# Altium footprint library spin5v1_simple.PcbLib: 34 footprints (part 2 of 4)
Each footprint in its own frame and in the unit in brackets; x right, y up, seen from the top. Pads: shape width x height; smd on the part's side, far side on the other; paste and mask are expansions set on the pad; w line width, h text height; cw(c..) or ccw(c..) is an arc to the next point about the centre after c.
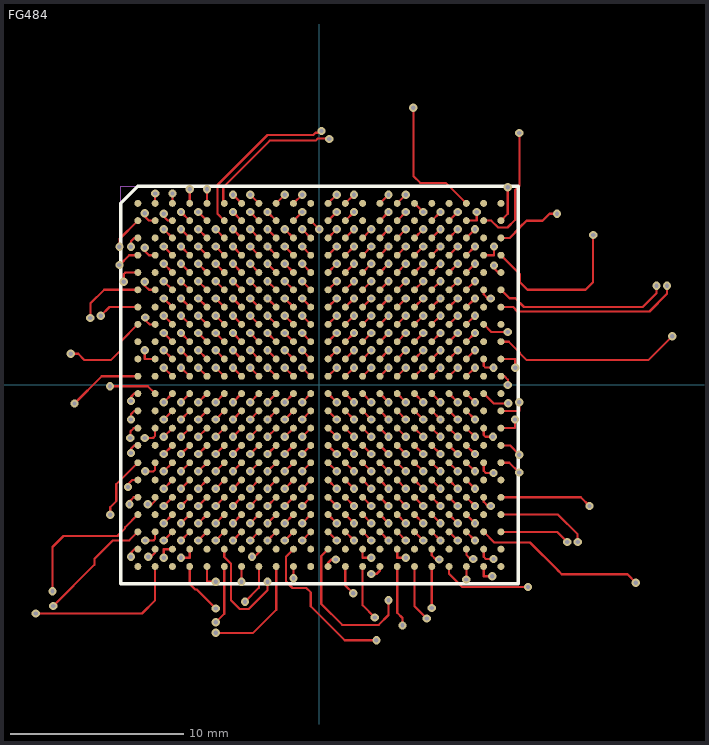
[diagram p1: the footprint, top view; thin cyan lines are the x and y axes]

## FG484 [mm] "FG484"
pads (484):
  round 0.4 smd: A1(-10.5,10.5) A2(-9.5,10.5) A3(-8.5,10.5) A4(-7.5,10.5) A5(-6.5,10.5) A6(-5.5,10.5) A7(-4.5,10.5) A8(-3.5,10.5) A9(-2.5,10.5) A10(-1.5,10.5) A11(-0.5,10.5) A12(0.5,10.5) A13(1.5,10.5) A14(2.5,10.5) A15(3.5,10.5) A16(4.5,10.5) A17(5.5,10.5) A18(6.5,10.5) A19(7.5,10.5) A20(8.5,10.5) A21(9.5,10.5) A22(10.5,10.5) AA1(-10.5,-9.5) AA2(-9.5,-9.5) AA3(-8.5,-9.5) AA4(-7.5,-9.5) AA5(-6.5,-9.5) AA6(-5.5,-9.5) AA7(-4.5,-9.5) AA8(-3.5,-9.5) AA9(-2.5,-9.5) AA10(-1.5,-9.5) AA11(-0.5,-9.5) AA12(0.5,-9.5) AA13(1.5,-9.5) AA14(2.5,-9.5) AA15(3.5,-9.5) AA16(4.5,-9.5) AA17(5.5,-9.5) AA18(6.5,-9.5) AA19(7.5,-9.5) AA20(8.5,-9.5) AA21(9.5,-9.5) AA22(10.5,-9.5) AB1(-10.5,-10.5) AB2(-9.5,-10.5) AB3(-8.5,-10.5) AB4(-7.5,-10.5) AB5(-6.5,-10.5) AB6(-5.5,-10.5) AB7(-4.5,-10.5) AB8(-3.5,-10.5) AB9(-2.5,-10.5) AB10(-1.5,-10.5) AB11(-0.5,-10.5) AB12(0.5,-10.5) AB13(1.5,-10.5) AB14(2.5,-10.5) AB15(3.5,-10.5) AB16(4.5,-10.5) AB17(5.5,-10.5) AB18(6.5,-10.5) AB19(7.5,-10.5) AB20(8.5,-10.5) AB21(9.5,-10.5) AB22(10.5,-10.5) B1(-10.5,9.5) B2(-9.5,9.5) B3(-8.5,9.5) B4(-7.5,9.5) B5(-6.5,9.5) B6(-5.5,9.5) B7(-4.5,9.5) B8(-3.5,9.5) B9(-2.5,9.5) B10(-1.5,9.5) B11(-0.5,9.5) B12(0.5,9.5) B13(1.5,9.5) B14(2.5,9.5) B15(3.5,9.5) B16(4.5,9.5) B17(5.5,9.5) B18(6.5,9.5) B19(7.5,9.5) B20(8.5,9.5) B21(9.5,9.5) B22(10.5,9.5) C1(-10.5,8.5) C2(-9.5,8.5) C3(-8.5,8.5) C4(-7.5,8.5) C5(-6.5,8.5) C6(-5.5,8.5) C7(-4.5,8.5) C8(-3.5,8.5) C9(-2.5,8.5) C10(-1.5,8.5) C11(-0.5,8.5) C12(0.5,8.5) C13(1.5,8.5) C14(2.5,8.5) C15(3.5,8.5) C16(4.5,8.5) C17(5.5,8.5) C18(6.5,8.5) C19(7.5,8.5) C20(8.5,8.5) C21(9.5,8.5) C22(10.5,8.5) D1(-10.5,7.5) D2(-9.5,7.5) D3(-8.5,7.5) D4(-7.5,7.5) D5(-6.5,7.5) D6(-5.5,7.5) D7(-4.5,7.5) D8(-3.5,7.5) D9(-2.5,7.5) D10(-1.5,7.5) D11(-0.5,7.5) D12(0.5,7.5) D13(1.5,7.5) D14(2.5,7.5) D15(3.5,7.5) D16(4.5,7.5) D17(5.5,7.5) D18(6.5,7.5) D19(7.5,7.5) D20(8.5,7.5) D21(9.5,7.5) D22(10.5,7.5) E1(-10.5,6.5) E2(-9.5,6.5) E3(-8.5,6.5) E4(-7.5,6.5) E5(-6.5,6.5) E6(-5.5,6.5) E7(-4.5,6.5) E8(-3.5,6.5) E9(-2.5,6.5) E10(-1.5,6.5) E11(-0.5,6.5) E12(0.5,6.5) E13(1.5,6.5) E14(2.5,6.5) E15(3.5,6.5) E16(4.5,6.5) E17(5.5,6.5) E18(6.5,6.5) E19(7.5,6.5) E20(8.5,6.5) E21(9.5,6.5) E22(10.5,6.5) F1(-10.5,5.5) F2(-9.5,5.5) F3(-8.5,5.5) F4(-7.5,5.5) F5(-6.5,5.5) F6(-5.5,5.5) F7(-4.5,5.5) F8(-3.5,5.5) F9(-2.5,5.5) F10(-1.5,5.5) F11(-0.5,5.5) F12(0.5,5.5) F13(1.5,5.5) F14(2.5,5.5) F15(3.5,5.5) F16(4.5,5.5) F17(5.5,5.5) F18(6.5,5.5) F19(7.5,5.5) F20(8.5,5.5) F21(9.5,5.5) F22(10.5,5.5) G1(-10.5,4.5) G2(-9.5,4.5) G3(-8.5,4.5) G4(-7.5,4.5) G5(-6.5,4.5) G6(-5.5,4.5) G7(-4.5,4.5) G8(-3.5,4.5) G9(-2.5,4.5) G10(-1.5,4.5) G11(-0.5,4.5) G12(0.5,4.5) G13(1.5,4.5) G14(2.5,4.5) G15(3.5,4.5) G16(4.5,4.5) G17(5.5,4.5) G18(6.5,4.5) G19(7.5,4.5) G20(8.5,4.5) G21(9.5,4.5) G22(10.5,4.5) H1(-10.5,3.5) H2(-9.5,3.5) H3(-8.5,3.5) H4(-7.5,3.5) H5(-6.5,3.5) H6(-5.5,3.5) H7(-4.5,3.5) H8(-3.5,3.5) H9(-2.5,3.5) H10(-1.5,3.5) H11(-0.5,3.5) H12(0.5,3.5) H13(1.5,3.5) H14(2.5,3.5) H15(3.5,3.5) H16(4.5,3.5) H17(5.5,3.5) H18(6.5,3.5) H19(7.5,3.5) H20(8.5,3.5) H21(9.5,3.5) H22(10.5,3.5) J1(-10.5,2.5) J2(-9.5,2.5) J3(-8.5,2.5) J4(-7.5,2.5) J5(-6.5,2.5) J6(-5.5,2.5) J7(-4.5,2.5) J8(-3.5,2.5) J9(-2.5,2.5) J10(-1.5,2.5) J11(-0.5,2.5) J12(0.5,2.5) J13(1.5,2.5) J14(2.5,2.5) J15(3.5,2.5) J16(4.5,2.5) J17(5.5,2.5) J18(6.5,2.5) J19(7.5,2.5) J20(8.5,2.5) J21(9.5,2.5) J22(10.5,2.5) K1(-10.5,1.5) K2(-9.5,1.5) K3(-8.5,1.5) K4(-7.5,1.5) K5(-6.5,1.5) K6(-5.5,1.5) K7(-4.5,1.5) K8(-3.5,1.5) K9(-2.5,1.5) K10(-1.5,1.5) K11(-0.5,1.5) K12(0.5,1.5) K13(1.5,1.5) K14(2.5,1.5) K15(3.5,1.5) K16(4.5,1.5) K17(5.5,1.5) K18(6.5,1.5) K19(7.5,1.5) K20(8.5,1.5) K21(9.5,1.5) K22(10.5,1.5) L1(-10.5,0.5) L2(-9.5,0.5) L3(-8.5,0.5) L4(-7.5,0.5) L5(-6.5,0.5) L6(-5.5,0.5) L7(-4.5,0.5) L8(-3.5,0.5) L9(-2.5,0.5) L10(-1.5,0.5) L11(-0.5,0.5) L12(0.5,0.5) L13(1.5,0.5) L14(2.5,0.5) L15(3.5,0.5) L16(4.5,0.5) L17(5.5,0.5) L18(6.5,0.5) L19(7.5,0.5) L20(8.5,0.5) L21(9.5,0.5) L22(10.5,0.5) M1(-10.5,-0.5) M2(-9.5,-0.5) M3(-8.5,-0.5) M4(-7.5,-0.5) M5(-6.5,-0.5) M6(-5.5,-0.5) M7(-4.5,-0.5) M8(-3.5,-0.5) M9(-2.5,-0.5) M10(-1.5,-0.5) M11(-0.5,-0.5) M12(0.5,-0.5) M13(1.5,-0.5) M14(2.5,-0.5) M15(3.5,-0.5) M16(4.5,-0.5) M17(5.5,-0.5) M18(6.5,-0.5) M19(7.5,-0.5) M20(8.5,-0.5) M21(9.5,-0.5) M22(10.5,-0.5) N1(-10.5,-1.5) N2(-9.5,-1.5) N3(-8.5,-1.5) N4(-7.5,-1.5) N5(-6.5,-1.5) N6(-5.5,-1.5) N7(-4.5,-1.5) N8(-3.5,-1.5) N9(-2.5,-1.5) N10(-1.5,-1.5) N11(-0.5,-1.5) N12(0.5,-1.5) N13(1.5,-1.5) N14(2.5,-1.5) N15(3.5,-1.5) N16(4.5,-1.5) N17(5.5,-1.5) N18(6.5,-1.5) N19(7.5,-1.5) N20(8.5,-1.5) N21(9.5,-1.5) N22(10.5,-1.5) P1(-10.5,-2.5) P2(-9.5,-2.5) P3(-8.5,-2.5) P4(-7.5,-2.5) P5(-6.5,-2.5) P6(-5.5,-2.5) P7(-4.5,-2.5) P8(-3.5,-2.5) P9(-2.5,-2.5) P10(-1.5,-2.5) P11(-0.5,-2.5) P12(0.5,-2.5) P13(1.5,-2.5) P14(2.5,-2.5) P15(3.5,-2.5) P16(4.5,-2.5) P17(5.5,-2.5) P18(6.5,-2.5) P19(7.5,-2.5) P20(8.5,-2.5) P21(9.5,-2.5) P22(10.5,-2.5) R1(-10.5,-3.5) R2(-9.5,-3.5) R3(-8.5,-3.5) R4(-7.5,-3.5) R5(-6.5,-3.5) R6(-5.5,-3.5) R7(-4.5,-3.5) R8(-3.5,-3.5) R9(-2.5,-3.5) R10(-1.5,-3.5) R11(-0.5,-3.5) R12(0.5,-3.5) R13(1.5,-3.5) R14(2.5,-3.5) R15(3.5,-3.5) R16(4.5,-3.5) R17(5.5,-3.5) R18(6.5,-3.5) R19(7.5,-3.5) R20(8.5,-3.5) R21(9.5,-3.5) R22(10.5,-3.5) T1(-10.5,-4.5) T2(-9.5,-4.5) T3(-8.5,-4.5) T4(-7.5,-4.5) T5(-6.5,-4.5) T6(-5.5,-4.5) T7(-4.5,-4.5) T8(-3.5,-4.5) T9(-2.5,-4.5) T10(-1.5,-4.5) T11(-0.5,-4.5) T12(0.5,-4.5) T13(1.5,-4.5) T14(2.5,-4.5) T15(3.5,-4.5) T16(4.5,-4.5) T17(5.5,-4.5) T18(6.5,-4.5) T19(7.5,-4.5) T20(8.5,-4.5) T21(9.5,-4.5) T22(10.5,-4.5) U1(-10.5,-5.5) U2(-9.5,-5.5) U3(-8.5,-5.5) U4(-7.5,-5.5) U5(-6.5,-5.5) U6(-5.5,-5.5) U7(-4.5,-5.5) U8(-3.5,-5.5) U9(-2.5,-5.5) U10(-1.5,-5.5) U11(-0.5,-5.5) U12(0.5,-5.5) U13(1.5,-5.5) U14(2.5,-5.5) U15(3.5,-5.5) U16(4.5,-5.5) U17(5.5,-5.5) U18(6.5,-5.5) U19(7.5,-5.5) U20(8.5,-5.5) U21(9.5,-5.5) U22(10.5,-5.5) V1(-10.5,-6.5) V2(-9.5,-6.5) V3(-8.5,-6.5) V4(-7.5,-6.5) V5(-6.5,-6.5) V6(-5.5,-6.5) V7(-4.5,-6.5) V8(-3.5,-6.5) V9(-2.5,-6.5) V10(-1.5,-6.5) V11(-0.5,-6.5) V12(0.5,-6.5) V13(1.5,-6.5) V14(2.5,-6.5) V15(3.5,-6.5) V16(4.5,-6.5) V17(5.5,-6.5) V18(6.5,-6.5) V19(7.5,-6.5) V20(8.5,-6.5) V21(9.5,-6.5) V22(10.5,-6.5) W1(-10.5,-7.5) W2(-9.5,-7.5) W3(-8.5,-7.5) W4(-7.5,-7.5) W5(-6.5,-7.5) W6(-5.5,-7.5) W7(-4.5,-7.5) W8(-3.5,-7.5) W9(-2.5,-7.5) W10(-1.5,-7.5) W11(-0.5,-7.5) W12(0.5,-7.5) W13(1.5,-7.5) W14(2.5,-7.5) W15(3.5,-7.5) W16(4.5,-7.5) W17(5.5,-7.5) W18(6.5,-7.5) W19(7.5,-7.5) W20(8.5,-7.5) W21(9.5,-7.5) W22(10.5,-7.5) Y1(-10.5,-8.5) Y2(-9.5,-8.5) Y3(-8.5,-8.5) Y4(-7.5,-8.5) Y5(-6.5,-8.5) Y6(-5.5,-8.5) Y7(-4.5,-8.5) Y8(-3.5,-8.5) Y9(-2.5,-8.5) Y10(-1.5,-8.5) Y11(-0.5,-8.5) Y12(0.5,-8.5) Y13(1.5,-8.5) Y14(2.5,-8.5) Y15(3.5,-8.5) Y16(4.5,-8.5) Y17(5.5,-8.5) Y18(6.5,-8.5) Y19(7.5,-8.5) Y20(8.5,-8.5) Y21(9.5,-8.5) Y22(10.5,-8.5)
via 2,-2 diameter 0.48 hole 0.25
via 6,-2 diameter 0.48 hole 0.25
via -3,-2 diameter 0.48 hole 0.25
via -1,-2 diameter 0.48 hole 0.25
via 0,9 diameter 0.48 hole 0.25
via 4,10 diameter 0.48 hole 0.25
via -5,10 diameter 0.48 hole 0.25
via -7,10 diameter 0.48 hole 0.25
via 2,11 diameter 0.48 hole 0.25
via -2,11 diameter 0.48 hole 0.25
via 6,10 diameter 0.48 hole 0.25
via 5,-8 diameter 0.48 hole 0.25
via 3,-7 diameter 0.48 hole 0.25
via 1,-3 diameter 0.48 hole 0.25
via -2,-7 diameter 0.48 hole 0.25
via -2,-3 diameter 0.48 hole 0.25
via -5,-8 diameter 0.48 hole 0.25
via -5,-6 diameter 0.48 hole 0.25
via -7,5 diameter 0.48 hole 0.25
via -5,4 diameter 0.48 hole 0.25
via -3,1 diameter 0.48 hole 0.25
via -7,1 diameter 0.48 hole 0.25
via -2,-1 diameter 0.48 hole 0.25
via -7,-4 diameter 0.48 hole 0.25
via -8,-7 diameter 0.48 hole 0.25
via 5,8 diameter 0.48 hole 0.25
via 5,9 diameter 0.48 hole 0.25
via 4,7 diameter 0.48 hole 0.25
via 3,7 diameter 0.48 hole 0.25
via 3,9 diameter 0.48 hole 0.25
via 2,3 diameter 0.48 hole 0.25
via 2,6 diameter 0.48 hole 0.25
via 1,2 diameter 0.48 hole 0.25
via 1,9 diameter 0.48 hole 0.25
via -1,1 diameter 0.48 hole 0.25
via -1,3 diameter 0.48 hole 0.25
via -1,7 diameter 0.48 hole 0.25
via -2,2 diameter 0.48 hole 0.25
via -2,8 diameter 0.48 hole 0.25
via -3,3 diameter 0.48 hole 0.25
via -4,9 diameter 0.48 hole 0.25
via -5,7 diameter 0.48 hole 0.25
via -6,8 diameter 0.48 hole 0.25
via -6,9 diameter 0.48 hole 0.25
via 7,5 diameter 0.48 hole 0.25
via 4,3 diameter 0.48 hole 0.25
via 3,2 diameter 0.48 hole 0.25
via 7,1 diameter 0.48 hole 0.25
via 2,1 diameter 0.48 hole 0.25
via 3,-1 diameter 0.48 hole 0.25
via 1,-1 diameter 0.48 hole 0.25
via 3,-3 diameter 0.48 hole 0.25
via 7,-4 diameter 0.48 hole 0.25
via 8,-8 diameter 0.48 hole 0.25
via 5,-1 diameter 0.48 hole 0.25
via 5,-9 diameter 0.48 hole 0.25
via 6,-9 diameter 0.48 hole 0.25
via 5,-10 diameter 0.48 hole 0.25
via 6.931,-10.099 diameter 0.48 hole 0.25
via 6.216,-13.509 diameter 0.48 hole 0.25
via 6.5,-12.902 diameter 0.48 hole 0.25
via 5,-2 diameter 0.48 hole 0.25
via 5,-3 diameter 0.48 hole 0.25
via 6,-3 diameter 0.48 hole 0.25
via 5,-4 diameter 0.48 hole 0.25
via 6,-4 diameter 0.48 hole 0.25
via 6,-5 diameter 0.48 hole 0.25
via 5,-6 diameter 0.48 hole 0.25
via 6,-7 diameter 0.48 hole 0.25
via 6,-8 diameter 0.48 hole 0.25
via 4,1 diameter 0.48 hole 0.25
via 3,-9 diameter 0.48 hole 0.25
via 4,-9 diameter 0.48 hole 0.25
via 3,-10 diameter 0.48 hole 0.25
via 3.2,-13.446 diameter 0.48 hole 0.25
via 3,-10.935 diameter 0.48 hole 0.25
via 4.801,-13.908 diameter 0.48 hole 0.25
via 4,-2 diameter 0.48 hole 0.25
via 4,-4 diameter 0.48 hole 0.25
via 3,-5 diameter 0.48 hole 0.25
via 4,-5 diameter 0.48 hole 0.25
via 3,-6 diameter 0.48 hole 0.25
via 4,-6 diameter 0.48 hole 0.25
via 4,-7 diameter 0.48 hole 0.25
via 3,-8 diameter 0.48 hole 0.25
via 4,-8 diameter 0.48 hole 0.25
via 6,-1 diameter 0.48 hole 0.25
via 11.566,-4.032 diameter 0.48 hole 0.25
via 9,-5 diameter 0.48 hole 0.25
via 10.068,-5.093 diameter 0.48 hole 0.25
via 11.555,-5.069 diameter 0.48 hole 0.25
via 9,-6 diameter 0.48 hole 0.25
via 7,-1 diameter 0.48 hole 0.25
via 8,-1 diameter 0.48 hole 0.25
via 8,-2 diameter 0.48 hole 0.25
via 9,-2 diameter 0.48 hole 0.25
via 11.566,-1.002 diameter 0.48 hole 0.25
via 9,-3 diameter 0.48 hole 0.25
via 10.034,-3 diameter 0.48 hole 0.25
via 11.312,-2 diameter 0.48 hole 0.25
via 9,-4 diameter 0.48 hole 0.25
via 7,-3 diameter 0.48 hole 0.25
via 9,-8 diameter 0.48 hole 0.25
via 14.934,-9.082 diameter 0.48 hole 0.25
via 7,-9 diameter 0.48 hole 0.25
via 18.297,-11.439 diameter 0.48 hole 0.25
via 14.327,-9.082 diameter 0.48 hole 0.25
via 12.065,-11.683 diameter 0.48 hole 0.25
via 8,-3 diameter 0.48 hole 0.25
via 8,-4 diameter 0.48 hole 0.25
via 7,-5 diameter 0.48 hole 0.25
via 8,-5 diameter 0.48 hole 0.25
via 8,-6 diameter 0.48 hole 0.25
via 8,-7 diameter 0.48 hole 0.25
via 9.901,-7 diameter 0.48 hole 0.25
via 15.619,-7 diameter 0.48 hole 0.25
via 7,-8 diameter 0.48 hole 0.25
via 7,6 diameter 0.48 hole 0.25
via 9,4 diameter 0.48 hole 0.25
via 10.901,3.065 diameter 0.48 hole 0.25
via 8,3 diameter 0.48 hole 0.25
via 9,3 diameter 0.48 hole 0.25
via 20.402,2.815 diameter 0.48 hole 0.25
via 8,6 diameter 0.48 hole 0.25
via 9,6 diameter 0.48 hole 0.25
via 8,5 diameter 0.48 hole 0.25
via 9,5 diameter 0.48 hole 0.25
via 20.103,5.729 diameter 0.48 hole 0.25
via 5,4 diameter 0.48 hole 0.25
via 6,4 diameter 0.48 hole 0.25
via 7,4 diameter 0.48 hole 0.25
via 8,4 diameter 0.48 hole 0.25
via 5,3 diameter 0.48 hole 0.25
via 8,1 diameter 0.48 hole 0.25
via 9,1 diameter 0.48 hole 0.25
via 10.901,0 diameter 0.48 hole 0.25
via 9,-1 diameter 0.48 hole 0.25
via 10.913,-1.069 diameter 0.48 hole 0.25
via 6,3 diameter 0.48 hole 0.25
via 5,2 diameter 0.48 hole 0.25
via 6,2 diameter 0.48 hole 0.25
via 7,2 diameter 0.48 hole 0.25
via 8,2 diameter 0.48 hole 0.25
via 9,2 diameter 0.48 hole 0.25
via 10.07,1 diameter 0.48 hole 0.25
via 11.332,1 diameter 0.48 hole 0.25
via 6,1 diameter 0.48 hole 0.25
via 5.434,16.032 diameter 0.48 hole 0.25
via 10.099,8 diameter 0.48 hole 0.25
via 15.829,8.673 diameter 0.48 hole 0.25
via 9,7 diameter 0.48 hole 0.25
via 10.099,6.901 diameter 0.48 hole 0.25
via 9.916,5 diameter 0.48 hole 0.25
via 19.496,5.729 diameter 0.48 hole 0.25
via 9.099,9.998 diameter 0.48 hole 0.25
via 11.566,14.567 diameter 0.48 hole 0.25
via 10.891,11.434 diameter 0.48 hole 0.25
via 7,9 diameter 0.48 hole 0.25
via 8,9 diameter 0.48 hole 0.25
via 9,9 diameter 0.48 hole 0.25
via 13.737,9.901 diameter 0.48 hole 0.25
via 7,8 diameter 0.48 hole 0.25
via 8,8 diameter 0.48 hole 0.25
via -10.099,5.966 diameter 0.48 hole 0.25
via -9,4 diameter 0.48 hole 0.25
via -8,4 diameter 0.48 hole 0.25
via -7,4 diameter 0.48 hole 0.25
via -6,4 diameter 0.48 hole 0.25
via -4,4 diameter 0.48 hole 0.25
via -9,6 diameter 0.48 hole 0.25
via -7,6 diameter 0.48 hole 0.25
via -12.638,4 diameter 0.48 hole 0.25
via -9,5 diameter 0.48 hole 0.25
via -8,5 diameter 0.48 hole 0.25
via -6,5 diameter 0.48 hole 0.25
via -5,5 diameter 0.48 hole 0.25
via -14.381,1.8 diameter 0.48 hole 0.25
via -10.069,3.901 diameter 0.48 hole 0.25
via -9.5,11.067 diameter 0.48 hole 0.25
via -9,8 diameter 0.48 hole 0.25
via -8,8 diameter 0.48 hole 0.25
via -11.311,5.966 diameter 0.48 hole 0.25
via -9,7 diameter 0.48 hole 0.25
via -8,7 diameter 0.48 hole 0.25
via -13.245,3.866 diameter 0.48 hole 0.25
via -8.5,11.067 diameter 0.48 hole 0.25
via -7.5,11.317 diameter 0.48 hole 0.25
via -6.5,11.317 diameter 0.48 hole 0.25
via -11.566,7.998 diameter 0.48 hole 0.25
via -10.099,9.931 diameter 0.48 hole 0.25
via -9,9.901 diameter 0.48 hole 0.25
via -10.901,7.998 diameter 0.48 hole 0.25
via -11.566,6.931 diameter 0.48 hole 0.25
via -10.099,7.931 diameter 0.48 hole 0.25
via -10.901,-0.935 diameter 0.48 hole 0.25
via -8,-2 diameter 0.48 hole 0.25
via -6,-2 diameter 0.48 hole 0.25
via -5,-2 diameter 0.48 hole 0.25
via -10.931,-3.069 diameter 0.48 hole 0.25
via -10.099,-3.069 diameter 0.48 hole 0.25
via -9,-3 diameter 0.48 hole 0.25
via -12.105,-0.073 diameter 0.48 hole 0.25
via -9,-1 diameter 0.48 hole 0.25
via -8,-1 diameter 0.48 hole 0.25
via -7,-1 diameter 0.48 hole 0.25
via -6,-1 diameter 0.48 hole 0.25
via -5,-1 diameter 0.48 hole 0.25
via -4,-1 diameter 0.48 hole 0.25
via -10.901,-2 diameter 0.48 hole 0.25
via -9,-2 diameter 0.48 hole 0.25
via -9,3 diameter 0.48 hole 0.25
via -5,2 diameter 0.48 hole 0.25
via -4,2 diameter 0.48 hole 0.25
via -14.158,-1.073 diameter 0.48 hole 0.25
via -9,1 diameter 0.48 hole 0.25
via -8,1 diameter 0.48 hole 0.25
via -6,1 diameter 0.48 hole 0.25
via -8,3 diameter 0.48 hole 0.25
via -6,3 diameter 0.48 hole 0.25
via -5,3 diameter 0.48 hole 0.25
via -10.099,2 diameter 0.48 hole 0.25
via -9,2 diameter 0.48 hole 0.25
via -8,2 diameter 0.48 hole 0.25
via -7,2 diameter 0.48 hole 0.25
via -6,2 diameter 0.48 hole 0.25
via -5,-5 diameter 0.48 hole 0.25
via -15.431,-11.93 diameter 0.48 hole 0.25
via -9,-8 diameter 0.48 hole 0.25
via -8,-8 diameter 0.48 hole 0.25
via -6,-8 diameter 0.48 hole 0.25
via -15.4,-12.791 diameter 0.48 hole 0.25
via -10.067,-8.999 diameter 0.48 hole 0.25
via -11.065,-5.901 diameter 0.48 hole 0.25
via -9,-6 diameter 0.48 hole 0.25
via -8,-6 diameter 0.48 hole 0.25
via -6,-6 diameter 0.48 hole 0.25
via -10.983,-6.901 diameter 0.48 hole 0.25
via -9.931,-6.901 diameter 0.48 hole 0.25
via -9,-7 diameter 0.48 hole 0.25
via -7,-7 diameter 0.48 hole 0.25
via -5,-7 diameter 0.48 hole 0.25
via -8,-3 diameter 0.48 hole 0.25
via -12.092,-7.501 diameter 0.48 hole 0.25
via -10.068,-5 diameter 0.48 hole 0.25
via -9,-5 diameter 0.48 hole 0.25
via -8,-5 diameter 0.48 hole 0.25
via -7,-5 diameter 0.48 hole 0.25
via -6,-5 diameter 0.48 hole 0.25
via -7,-3 diameter 0.48 hole 0.25
via -6,-3 diameter 0.48 hole 0.25
via -5,-3 diameter 0.48 hole 0.25
via -4,-3 diameter 0.48 hole 0.25
via -10.901,-3.934 diameter 0.48 hole 0.25
via -9,-4 diameter 0.48 hole 0.25
via -8,-4 diameter 0.48 hole 0.25
via -5,-4 diameter 0.48 hole 0.25
via -4,-4 diameter 0.48 hole 0.25
via 2,-4 diameter 0.48 hole 0.25
via 1,-9 diameter 0.48 hole 0.25
via 2,-9 diameter 0.48 hole 0.25
via 4,-12.446 diameter 0.48 hole 0.25
via 0.951,-10.099 diameter 0.48 hole 0.25
via 1.951,-12.046 diameter 0.48 hole 0.25
via 1,-5 diameter 0.48 hole 0.25
via 1,-6 diameter 0.48 hole 0.25
via 2,-6 diameter 0.48 hole 0.25
via -1,-7 diameter 0.48 hole 0.25
via 2,-7 diameter 0.48 hole 0.25
via -1,-8 diameter 0.48 hole 0.25
via 1,-8 diameter 0.48 hole 0.25
via 2,-8 diameter 0.48 hole 0.25
via -1,-9 diameter 0.48 hole 0.25
via -3,-4 diameter 0.48 hole 0.25
via -2,-9 diameter 0.48 hole 0.25
via -3.901,-9.934 diameter 0.48 hole 0.25
via 3.297,-14.77 diameter 0.48 hole 0.25
via -4.301,-12.532 diameter 0.48 hole 0.25
via -6,-14.339 diameter 0.48 hole 0.25
via -1.5,-11.174 diameter 0.48 hole 0.25
via -1,-4 diameter 0.48 hole 0.25
via -2,-5 diameter 0.48 hole 0.25
via -1,-5 diameter 0.48 hole 0.25
via -3,-6 diameter 0.48 hole 0.25
via -2,-6 diameter 0.48 hole 0.25
via -3,-7 diameter 0.48 hole 0.25
via -3,-8 diameter 0.48 hole 0.25
via -2,-8 diameter 0.48 hole 0.25
via -3,-9 diameter 0.48 hole 0.25
via -4,-5 diameter 0.48 hole 0.25
via -8,-10 diameter 0.48 hole 0.25
via -3,-11.375 diameter 0.48 hole 0.25
via -6,-12.931 diameter 0.48 hole 0.25
via -6,-11.375 diameter 0.48 hole 0.25
via -6,-13.732 diameter 0.48 hole 0.25
via -4.5,-11.375 diameter 0.48 hole 0.25
via -4,-6 diameter 0.48 hole 0.25
via -4,-8 diameter 0.48 hole 0.25
via -9,-9 diameter 0.48 hole 0.25
via -7,-9 diameter 0.48 hole 0.25
via -6,-9 diameter 0.48 hole 0.25
via -5,-9 diameter 0.48 hole 0.25
via -4,-9 diameter 0.48 hole 0.25
via -10.901,-9.934 diameter 0.48 hole 0.25
via -9.901,-9.933 diameter 0.48 hole 0.25
via 6,5 diameter 0.48 hole 0.25
via 9,8 diameter 0.48 hole 0.25
via -2,-2 diameter 0.48 hole 0.25
via 1,-2 diameter 0.48 hole 0.25
via 3,-2 diameter 0.48 hole 0.25
via 3,-4 diameter 0.48 hole 0.25
via -3,-3 diameter 0.48 hole 0.25
via 2,-3 diameter 0.48 hole 0.25
via -1,-3 diameter 0.48 hole 0.25
via -3,-1 diameter 0.48 hole 0.25
via 2,-1 diameter 0.48 hole 0.25
via -1,-1 diameter 0.48 hole 0.25
via 3,1 diameter 0.48 hole 0.25
via 1,1 diameter 0.48 hole 0.25
via -2,1 diameter 0.48 hole 0.25
via -3,2 diameter 0.48 hole 0.25
via 2,2 diameter 0.48 hole 0.25
via -1,2 diameter 0.48 hole 0.25
via -4,3 diameter 0.48 hole 0.25
via 3,3 diameter 0.48 hole 0.25
via 1,3 diameter 0.48 hole 0.25
via -2,3 diameter 0.48 hole 0.25
via 7,-2 diameter 0.48 hole 0.25
via -7,-2 diameter 0.48 hole 0.25
via 5,-7 diameter 0.48 hole 0.25
via 2,-5 diameter 0.48 hole 0.25
via 1,-7 diameter 0.48 hole 0.25
via -3,-5 diameter 0.48 hole 0.25
via -4,-7 diameter 0.48 hole 0.25
via -7,-8 diameter 0.48 hole 0.25
via -8,6 diameter 0.48 hole 0.25
via -7,3 diameter 0.48 hole 0.25
via -5,1 diameter 0.48 hole 0.25
via -7,-6 diameter 0.48 hole 0.25
via 8,10 diameter 0.48 hole 0.25
via 7,10 diameter 0.48 hole 0.25
via 6,7 diameter 0.48 hole 0.25
via 3,5 diameter 0.48 hole 0.25
via -2,5 diameter 0.48 hole 0.25
via -6,6 diameter 0.48 hole 0.25
via -8,10 diameter 0.48 hole 0.25
via 8,7 diameter 0.48 hole 0.25
via 7,3 diameter 0.48 hole 0.25
via 5,1 diameter 0.48 hole 0.25
via 7,-6 diameter 0.48 hole 0.25
via 9,-9 diameter 0.48 hole 0.25
via 8.901,-10.069 diameter 0.48 hole 0.25
via 10.001,-11.066 diameter 0.48 hole 0.25
via 5,5 diameter 0.48 hole 0.25
via -16.4,-13.223 diameter 0.48 hole 0.25
via 5,-5 diameter 0.48 hole 0.25
via 4,-3 diameter 0.48 hole 0.25
via 6,-6 diameter 0.48 hole 0.25
via 7,-7 diameter 0.48 hole 0.25
via 9,-7 diameter 0.48 hole 0.25
via -7,9 diameter 0.48 hole 0.25
via -5,6 diameter 0.48 hole 0.25
via -4,6 diameter 0.48 hole 0.25
via -8,9 diameter 0.48 hole 0.25
via 6,8 diameter 0.48 hole 0.25
via 6,9 diameter 0.48 hole 0.25
via -7,7 diameter 0.48 hole 0.25
via -6,7 diameter 0.48 hole 0.25
via 3,4 diameter 0.48 hole 0.25
via 4,5 diameter 0.48 hole 0.25
via 2,4 diameter 0.48 hole 0.25
via 2,5 diameter 0.48 hole 0.25
via 5,7 diameter 0.48 hole 0.25
via 5,6 diameter 0.48 hole 0.25
via 3,6 diameter 0.48 hole 0.25
via 4,6 diameter 0.48 hole 0.25
via 1,4 diameter 0.48 hole 0.25
via -1,5 diameter 0.48 hole 0.25
via -3,5 diameter 0.48 hole 0.25
via -2,6 diameter 0.48 hole 0.25
via -2,4 diameter 0.48 hole 0.25
via -1,4 diameter 0.48 hole 0.25
via -4,5 diameter 0.48 hole 0.25
via -3,6 diameter 0.48 hole 0.25
via -7,8 diameter 0.48 hole 0.25
via 1,7 diameter 0.48 hole 0.25
via -1,9 diameter 0.48 hole 0.25
via 1,6 diameter 0.48 hole 0.25
via -1,8 diameter 0.48 hole 0.25
via -3,7 diameter 0.48 hole 0.25
via 1,10 diameter 0.48 hole 0.25
via -1,10 diameter 0.48 hole 0.25
via 1,11 diameter 0.48 hole 0.25
via -1,11 diameter 0.48 hole 0.25
via -5,9 diameter 0.48 hole 0.25
via -5,8 diameter 0.48 hole 0.25
via 0.574,14.218 diameter 0.48 hole 0.25
via 0.119,14.684 diameter 0.48 hole 0.25
via -3,9 diameter 0.48 hole 0.25
via -3,8 diameter 0.48 hole 0.25
via -4,11 diameter 0.48 hole 0.25
via -4,10 diameter 0.48 hole 0.25
via 8.5,-11.252 diameter 0.48 hole 0.25
via -9,-10 diameter 0.48 hole 0.25
via 5,11 diameter 0.48 hole 0.25
via 5,10 diameter 0.48 hole 0.25
via 4,9 diameter 0.48 hole 0.25
via 4,8 diameter 0.48 hole 0.25
via 7,7 diameter 0.48 hole 0.25
via -2,7 diameter 0.48 hole 0.25
via 4,11 diameter 0.48 hole 0.25
via -2,9 diameter 0.48 hole 0.25
via -3,10 diameter 0.48 hole 0.25
via -5,11 diameter 0.48 hole 0.25
via 1,8 diameter 0.48 hole 0.25
via -4,8 diameter 0.48 hole 0.25
via -4,7 diameter 0.48 hole 0.25
via 3,8 diameter 0.48 hole 0.25
via 2,7 diameter 0.48 hole 0.25
via 2,10 diameter 0.48 hole 0.25
via -4,-2 diameter 0.48 hole 0.25
via -1,6 diameter 0.48 hole 0.25
via 4,4 diameter 0.48 hole 0.25
via 1,5 diameter 0.48 hole 0.25
via -3,4 diameter 0.48 hole 0.25
via 4,2 diameter 0.48 hole 0.25
via -4,1 diameter 0.48 hole 0.25
via 4,-1 diameter 0.48 hole 0.25
via 1,-4 diameter 0.48 hole 0.25
via -2,-4 diameter 0.48 hole 0.25
via -6,-4 diameter 0.48 hole 0.25
via -1,-6 diameter 0.48 hole 0.25
via -6,-7 diameter 0.48 hole 0.25
via 6,6 diameter 0.48 hole 0.25
via -8,-9 diameter 0.48 hole 0.25
via 10.07,-10.069 diameter 0.48 hole 0.25
via 8,-9 diameter 0.48 hole 0.25
via -9,9 diameter 0.48 hole 0.25
via 2,9 diameter 0.48 hole 0.25
via 2,8 diameter 0.48 hole 0.25
Top Layer:
  lines w0.125: -5.5,9.5 -5.89,9.89 -5.89,11.566 -3.004,14.452 -0.353,14.452 -0.226,14.579 -0.091,14.579 0.014,14.684 0.119,14.684 ; -5.5,10.5 -5.565,10.565 -5.565,11.431 -2.869,14.127 -0.218,14.127 -0.091,14.254 0.538,14.254 0.574,14.218 ; -4,10 -3.5,9.5 ; -4,11 -3.5,10.5 ; -1.5,9.5 -1,10 ; -1.5,10.5 -1,11 ; 0.5,9.5 1,10 ; 0.5,10.5 1,11 ; 4.5,9.5 5,10 ; 4.5,10.5 5,11
  lines w0.127: -16.4,-13.223 -10.262,-13.223 -9.5,-12.461 -9.5,-10.5 ; -15.431,-11.93 -15.431,-9.373 -14.796,-8.738 -11.681,-8.738 -11.236,-8.293 -11.236,-8.236 -10.5,-7.5 ; -15.4,-12.791 -13.015,-10.406 -13.015,-10.072 -11.935,-8.992 -10.992,-8.992 -10.5,-8.5 ; -14.381,1.8 -13.95,1.8 -13.584,1.434 -12.06,1.434 -11.488,2.006 -11.488,2.512 -10.5,3.5 ; -14.158,-1.073 -12.585,0.5 -10.5,0.5 ; -13.245,3.866 -13.245,4.706 -12.451,5.5 -10.5,5.5 ; -12.638,4 -12.138,4.5 -10.5,4.5 ; -12.105,-0.073 -9.927,-0.073 -9.5,-0.5 ; -12.092,-7.501 -12.092,-7.07 -11.744,-6.722 -11.744,-5.744 -10.5,-4.5 ; -11.566,6.931 -10.997,7.5 -10.5,7.5 ; -11.566,7.998 -11.566,8.434 -10.5,9.5 ; -11.311,5.966 -11.311,6.4 -11.211,6.5 -10.5,6.5 ; -11.065,-5.901 -11.065,-5.74 -10.825,-5.5 -10.5,-5.5 ; -10.983,-6.901 -10.983,-6.74 -10.743,-6.5 -10.5,-6.5 ; -10.931,-3.069 -10.931,-2.7 -10.731,-2.5 -10.5,-2.5 ; -10.901,-9.934 -10.901,-9.7 -10.701,-9.5 -10.5,-9.5 ; -10.901,-3.934 -10.901,-3.7 -10.701,-3.5 -10.5,-3.5 ; -10.901,-2 -10.901,-1.7 -10.701,-1.5 -10.5,-1.5 ; -10.901,-0.935 -10.901,-0.7 -10.701,-0.5 -10.5,-0.5 ; -10.901,7.998 -10.901,8.3 -10.701,8.5 -10.5,8.5 ; -10.099,-3.069 -9.627,-3.069 -9.5,-2.942 -9.5,-2.5 ; -10.099,2 -10.099,1.5 -9.5,1.5 ; -10.099,5.966 -10.099,5.74 -9.859,5.5 -9.5,5.5 ; -10.099,7.931 -10.099,7.74 -9.859,7.5 -9.5,7.5 ; -10.099,9.931 -10.099,9.74 -9.859,9.5 -9.5,9.5 ; -10.068,-5 -9.6,-5 -9.5,-4.9 -9.5,-4.5 ; -10.069,3.901 -10.069,3.74 -9.829,3.5 -9.5,3.5 ; -10.067,-8.999 -9.6,-8.999 -9.5,-8.899 -9.5,-8.5 ; -9.931,-6.901 -9.7,-6.901 -9.5,-6.701 -9.5,-6.5 ; -9.901,-9.933 -9.74,-9.933 -9.5,-9.693 -9.5,-9.5 ; -9.5,10.5 -9.5,11.067 ; -9,-10 -9,-9.5 -8.5,-9.5 ; -9,-9 -8.5,-8.5 ; -9,-8 -8.5,-7.5 ; -9,-7 -8.5,-6.5 ; -9,-6 -8.5,-5.5 ; -9,-5 -8.5,-4.5 ; -9,-4 -8.5,-3.5 ; -9,-3 -8.5,-2.5 ; -9,-2 -8.5,-1.5 ; -9,-1 -8.5,-0.5 ; -9,1 -8.5,0.5 ; -9,2 -8.5,1.5 ; -9,3 -8.5,2.5 ; -9,4 -8.5,3.5 ; -9,5 -8.5,4.5 ; -9,6 -8.5,5.5 ; -9,7 -8.5,6.5 ; -9,8 -8.5,7.5 ; -9,9 -8.5,8.5 ; -9,9.901 -9,9.74 -8.76,9.5 -8.5,9.5 ; -8.5,10.5 -8.5,11.067 ; -8,-10 -7.5,-10 -7.5,-9.5 ; -8,-9 -7.5,-8.5 ; -8,-8 -7.5,-7.5 ; -8,-7 -7.5,-6.5 ; -8,-6 -7.5,-5.5 ; -8,-5 -7.5,-4.5 ; -8,-4 -7.5,-3.5 ; -8,-3 -7.5,-2.5 ; -8,-2 -7.5,-1.5 ; -8,-1 -7.5,-0.5 ; -8,1 -7.5,0.5 ; -8,2 -7.5,1.5 ; -8,3 -7.5,2.5 ; -8,4 -7.5,3.5 ; -8,5 -7.5,4.5 ; -8,6 -7.5,5.5 ; -8,7 -7.5,6.5 ; -8,8 -7.5,7.5 ; -8,9 -7.5,8.5 ; -8,10 -7.5,9.5 ; -7.5,-10.5 -7.5,-11.512 -7.182,-11.83 -7.101,-11.83 -6,-12.931 ; -7.5,10.5 -7.5,11.317 ; -7,-9 -6.5,-8.5 ; -7,-8 -6.5,-7.5 ; -7,-7 -6.5,-6.5 ; -7,-6 -6.5,-5.5 ; -7,-5 -6.5,-4.5 ; -7,-4 -6.5,-3.5 ; -7,-3 -6.5,-2.5 ; -7,-2 -6.5,-1.5 ; -7,-1 -6.5,-0.5 ; -7,1 -6.5,0.5 ; -7,2 -6.5,1.5 ; -7,3 -6.5,2.5 ; -7,4 -6.5,3.5 ; -7,5 -6.5,4.5 ; -7,6 -6.5,5.5 ; -7,7 -6.5,6.5 ; -7,8 -6.5,7.5 ; -7,9 -6.5,8.5 ; -7,10 -6.5,9.5 ; -6.5,-10.5 -6.5,-11.375 -6,-11.375 ; -6.5,10.5 -6.5,11.317 ; -6,-14.339 -3.834,-14.339 -2.5,-13.005 -2.5,-10.5 ; -6,-13.732 -5.5,-13.232 -5.5,-10.5 ; -6,-9 -5.5,-8.5 ; -6,-8 -5.5,-7.5 ; -6,-7 -5.5,-6.5 ; -6,-6 -5.5,-5.5 ; -6,-5 -5.5,-4.5 ; -6,-4 -5.5,-3.5 ; -6,-3 -5.5,-2.5 ; -6,-2 -5.5,-1.5 ; -6,-1 -5.5,-0.5 ; -6,1 -5.5,0.5 ; -6,2 -5.5,1.5 ; -6,3 -5.5,2.5 ; -6,4 -5.5,3.5 ; -6,5 -5.5,4.5 ; -6,6 -5.5,5.5 ; -6,7 -5.5,6.5 ; -6,8 -5.5,7.5 ; -6,9 -5.5,8.5 ; -5.5,-9.5 -5.5,-9.947 -5.109,-10.338 -5.109,-12.455 -4.601,-12.963 -4.08,-12.963 -3,-11.883 -3,-11.375 ; -5,-9 -4.5,-8.5 ; -5,-8 -4.5,-7.5 ; -5,-7 -4.5,-6.5 ; -5,-6 -4.5,-5.5 ; -5,-5 -4.5,-4.5 ; -5,-4 -4.5,-3.5 ; -5,-3 -4.5,-2.5 ; -5,-2 -4.5,-1.5 ; -5,-1 -4.5,-0.5 ; -5,1 -4.5,0.5 ; -5,2 -4.5,1.5 ; -5,3 -4.5,2.5 ; -5,4 -4.5,3.5 ; -5,5 -4.5,4.5 ; -5,6 -4.5,5.5 ; -5,7 -4.5,6.5 ; -5,8 -4.5,7.5 ; -5,9 -4.5,8.5 ; -5,10 -4.5,9.5 ; -5,11 -4.5,10.5 ; -4.5,-11.375 -4.5,-10.5 ; -4.301,-12.532 -3.5,-11.731 -3.5,-10.5 ; -4,-9 -3.5,-8.5 ; -4,-8 -3.5,-7.5 ; -4,-7 -3.5,-6.5 ; -4,-6 -3.5,-5.5 ; -4,-5 -3.5,-4.5 ; -4,-4 -3.5,-3.5 ; -4,-3 -3.5,-2.5 ; -4,-2 -3.5,-1.5 ; -4,-1 -3.5,-0.5 ; -4,1 -3.5,0.5 ; -4,2 -3.5,1.5 ; -4,3 -3.5,2.5 ; -4,4 -3.5,3.5 ; -4,5 -3.5,4.5 ; -4,6 -3.5,5.5 ; -4,7 -3.5,6.5 ; -4,8 -3.5,7.5 ; -4,9 -3.5,8.5 ; -3.901,-9.934 -3.74,-9.934 -3.5,-9.694 -3.5,-9.5 ; -3,-9 -2.5,-8.5 ; -3,-8 -2.5,-7.5 ; -3,-7 -2.5,-6.5 ; -3,-6 -2.5,-5.5 ; -3,-5 -2.5,-4.5 ; -3,-4 -2.5,-3.5 ; -3,-3 -2.5,-2.5 ; -3,-2 -2.5,-1.5 ; -3,-1 -2.5,-0.5 ; -3,1 -2.5,0.5 ; -3,2 -2.5,1.5 ; -3,3 -2.5,2.5 ; -3,4 -2.5,3.5 ; -3,5 -2.5,4.5 ; -3,6 -2.5,5.5 ; -3,7 -2.5,6.5 ; -3,8 -2.5,7.5 ; -3,9 -2.5,8.5 ; -3,10 -2.5,9.5 ; -2.5,10.5 -2,11 ; -2,-9 -1.5,-8.5 ; -2,-8 -1.5,-7.5 ; -2,-7 -1.5,-6.5 ; -2,-6 -1.5,-5.5 ; -2,-5 -1.5,-4.5 ; -2,-4 -1.5,-3.5 ; -2,-3 -1.5,-2.5 ; -2,-2 -1.5,-1.5 ; -2,-1 -1.5,-0.5 ; -2,1 -1.5,0.5 ; -2,2 -1.5,1.5 ; -2,3 -1.5,2.5 ; -2,4 -1.5,3.5 ; -2,5 -1.5,4.5 ; -2,6 -1.5,5.5 ; -2,7 -1.5,6.5 ; -2,8 -1.5,7.5 ; -2,9 -1.5,8.5 ; -1.5,-11.174 -1.5,-10.5 ; -1.5,-9.5 -1.931,-9.931 -1.931,-11.363 -1.55,-11.744 -0.758,-11.744 -0.504,-11.998 -0.504,-12.801 1.465,-14.77 3.297,-14.77 ; -1,-9 -0.5,-8.5 ; -1,-8 -0.5,-7.5 ; -1,-7 -0.5,-6.5 ; -1,-6 -0.5,-5.5 ; -1,-5 -0.5,-4.5 ; -1,-4 -0.5,-3.5 ; -1,-3 -0.5,-2.5 ; -1,-2 -0.5,-1.5 ; -1,-1 -0.5,-0.5 ; -1,1 -0.5,0.5 ; -1,2 -0.5,1.5 ; -1,3 -0.5,2.5 ; -1,4 -0.5,3.5 ; -1,5 -0.5,4.5 ; -1,6 -0.5,5.5 ; -1,7 -0.5,6.5 ; -1,8 -0.5,7.5 ; -1,9 -0.5,8.5 ; -0.5,9.5 0,9 ; 0.5,-10.5 0.5,-10.299 0.7,-10.099 0.951,-10.099 ; 0.5,-9.5 0.109,-9.891 0.109,-12.67 1.316,-13.877 3.428,-13.877 4,-13.305 4,-12.446 ; 0.5,-8.5 1,-9 ; 0.5,-7.5 1,-8 ; 0.5,-6.5 1,-7 ; 0.5,-5.5 1,-6 ; 0.5,-4.5 1,-5 ; 0.5,-3.5 1,-4 ; 0.5,-2.5 1,-3 ; 0.5,-1.5 1,-2 ; 0.5,-0.5 1,-1 ; 0.5,0.5 1,1 ; 0.5,1.5 1,2 ; 0.5,2.5 1,3 ; 0.5,3.5 1,4 ; 0.5,4.5 1,5 ; 0.5,5.5 1,6 ; 0.5,6.5 1,7 ; 0.5,7.5 1,8 ; 0.5,8.5 1,9 ; 1.5,-10.5 1.5,-11.595 1.951,-12.046 ; 1.5,-8.5 2,-9 ; 1.5,-7.5 2,-8 ; 1.5,-6.5 2,-7 ; 1.5,-5.5 2,-6 ; 1.5,-4.5 2,-5 ; 1.5,-3.5 2,-4 ; 1.5,-2.5 2,-3 ; 1.5,-1.5 2,-2 ; 1.5,-0.5 2,-1 ; 1.5,0.5 2,1 ; 1.5,1.5 2,2 ; 1.5,2.5 2,3 ; 1.5,3.5 2,4 ; 1.5,4.5 2,5 ; 1.5,5.5 2,6 ; 1.5,6.5 2,7 ; 1.5,7.5 2,8 ; 1.5,8.5 2,9 ; 1.5,9.5 2,10 ; 1.5,10.5 2,11 ; 2.5,-10.5 2.5,-12.746 3.2,-13.446 ; 2.5,-9.5 2.5,-10 3,-10 ; 2.5,-8.5 3,-9 ; 2.5,-7.5 3,-8 ; 2.5,-6.5 3,-7 ; 2.5,-5.5 3,-6 ; 2.5,-4.5 3,-5 ; 2.5,-3.5 3,-4 ; 2.5,-2.5 3,-3 ; 2.5,-1.5 3,-2 ; 2.5,-0.5 3,-1 ; 2.5,0.5 3,1 ; 2.5,1.5 3,2 ; 2.5,2.5 3,3 ; 2.5,3.5 3,4 ; 2.5,4.5 3,5 ; 2.5,5.5 3,6 ; 2.5,6.5 3,7 ; 2.5,7.5 3,8 ; 2.5,8.5 3,9 ; 3,-10.935 3.3,-10.935 3.5,-10.735 3.5,-10.5 ; 3.5,-8.5 4,-9 ; 3.5,-7.5 4,-8 ; 3.5,-6.5 4,-7 ; 3.5,-5.5 4,-6 ; 3.5,-4.5 4,-5 ; 3.5,-3.5 4,-4 ; 3.5,-2.5 4,-3 ; 3.5,-1.5 4,-2 ; 3.5,-0.5 4,-1 ; 3.5,0.5 4,1 ; 3.5,1.5 4,2 ; 3.5,2.5 4,3 ; 3.5,3.5 4,4 ; 3.5,4.5 4,5 ; 3.5,5.5 4,6 ; 3.5,6.5 4,7 ; 3.5,7.5 4,8 ; 3.5,8.5 4,9 ; 3.5,9.5 4,10 ; 3.5,10.5 4,11 ; 4.5,-10.5 4.5,-13.176 4.801,-13.477 4.801,-13.908 ; 4.5,-9.5 4.5,-10 5,-10 ; 4.5,-8.5 5,-9 ; 4.5,-7.5 5,-8 ; 4.5,-6.5 5,-7 ; 4.5,-5.5 5,-6 ; 4.5,-4.5 5,-5 ; 4.5,-3.5 5,-4 ; 4.5,-2.5 5,-3 ; 4.5,-1.5 5,-2 ; 4.5,-0.5 5,-1 ; 4.5,0.5 5,1 ; 4.5,1.5 5,2 ; 4.5,2.5 5,3 ; 4.5,3.5 5,4 ; 4.5,4.5 5,5 ; 4.5,5.5 5,6 ; 4.5,6.5 5,7 ; 4.5,7.5 5,8 ; 4.5,8.5 5,9 ; 5.434,16.032 5.434,12.082 5.831,11.685 7.315,11.685 8.5,10.5 ; 5.5,-10.5 5.5,-12.793 6.216,-13.509 ; 5.5,-8.5 6,-9 ; 5.5,-7.5 6,-8 ; 5.5,-6.5 6,-7 ; 5.5,-5.5 6,-6 ; 5.5,-4.5 6,-5 ; 5.5,-3.5 6,-4 ; 5.5,-2.5 6,-3 ; 5.5,-1.5 6,-2 ; 5.5,-0.5 6,-1 ; 5.5,0.5 6,1 ; 5.5,1.5 6,2 ; 5.5,2.5 6,3 ; 5.5,3.5 6,4 ; 5.5,4.5 6,5 ; 5.5,5.5 6,6 ; 5.5,6.5 6,7 ; 5.5,7.5 6,8 ; 5.5,8.5 6,9 ; 5.5,10.5 6,10 ; 6.5,-12.902 6.5,-10.5 ; 6.5,-9.5 6.5,-9.859 6.74,-10.099 6.931,-10.099 ; 6.5,-8.5 7,-9 ; 6.5,-7.5 7,-8 ; 6.5,-6.5 7,-7 ; 6.5,-5.5 7,-6 ; 6.5,-4.5 7,-5 ; 6.5,-3.5 7,-4 ; 6.5,-2.5 7,-3 ; 6.5,-1.5 7,-2 ; 6.5,-0.5 7,-1 ; 6.5,0.5 7,1 ; 6.5,1.5 7,2 ; 6.5,2.5 7,3 ; 6.5,3.5 7,4 ; 6.5,4.5 7,5 ; 6.5,5.5 7,6 ; 6.5,6.5 7,7 ; 6.5,7.5 7,8 ; 6.5,8.5 7,9 ; 6.5,9.5 7,10 ; 7.5,-10.5 7.5,-10.921 8.262,-11.683 12.065,-11.683 ; 7.5,-8.5 8,-9 ; 7.5,-7.5 8,-8 ; 7.5,-6.5 8,-7 ; 7.5,-5.5 8,-6 ; 7.5,-4.5 8,-5 ; 7.5,-3.5 8,-4 ; 7.5,-2.5 8,-3 ; 7.5,-1.5 8,-2 ; 7.5,-0.5 8,-1 ; 7.5,0.5 8,1 ; 7.5,1.5 8,2 ; 7.5,2.5 8,3 ; 7.5,3.5 8,4 ; 7.5,4.5 8,5 ; 7.5,5.5 8,6 ; 7.5,6.5 8,7 ; 7.5,7.5 8,8 ; 7.5,8.5 8,9 ; 7.5,9.5 8,10 ; 8.5,-11.252 8.5,-10.5 ; 8.5,-9.5 8.5,-9.829 8.74,-10.069 8.901,-10.069 ; 8.5,-8.5 9,-9 ; 8.5,-7.5 9,-8 ; 8.5,-6.5 9,-7 ; 8.5,-5.5 9,-6 ; 8.5,-4.5 9,-5 ; 8.5,-3.5 9,-4 ; 8.5,-2.5 9,-3 ; 8.5,-1.5 9,-2 ; 8.5,-0.5 9,-1 ; 8.5,0.5 9,1 ; 8.5,1.5 9,2 ; 8.5,2.5 9,3 ; 8.5,3.5 9,4 ; 8.5,4.5 9,5 ; 8.5,5.5 9,6 ; 8.5,6.5 9,7 ; 8.5,7.5 9,8 ; 8.5,8.5 9,9 ; 8.5,9.5 9.099,9.5 9.099,9.998 ; 9.5,-10.5 9.5,-11.066 10.001,-11.066 ; 9.5,-9.5 9.5,-9.942 9.627,-10.069 10.07,-10.069 ; 9.5,-8.5 10.109,-9.109 12.178,-9.109 13.766,-10.697 13.766,-10.701 14.02,-10.955 17.813,-10.955 18.297,-11.439 ; 9.5,-6.5 9.5,-6.76 9.74,-7 9.901,-7 ; 9.5,-4.5 9.5,-4.966 9.627,-5.093 10.068,-5.093 ; 9.5,-2.5 9.5,-2.9 9.6,-3 10.034,-3 ; 9.5,-0.5 10.069,-1.069 10.913,-1.069 ; 9.5,1.5 9.5,1.1 9.6,1 10.07,1 ; 9.5,3.5 9.935,3.065 10.901,3.065 ; 9.5,5.5 9.5,5.24 9.74,5 9.916,5 ; 9.5,7.5 10.099,7.5 10.099,8 ; 9.5,9.5 9.947,9.5 10.338,9.109 10.877,9.109 11.322,9.554 11.322,11.273 11.566,11.517 11.566,14.567 ; 10.099,6.901 10.099,6.74 10.339,6.5 10.5,6.5 ; 10.5,-8.5 13.745,-8.5 14.327,-9.082 ; 10.5,-7.5 13.791,-7.5 14.934,-8.643 14.934,-9.082 ; 10.5,-6.5 15.119,-6.5 15.619,-7 ; 10.5,-4.5 10.986,-4.5 11.555,-5.069 ; 10.5,-3.5 11.034,-3.5 11.566,-4.032 ; 10.5,-2.5 11.312,-2.5 11.312,-2 ; 10.5,-1.5 11.566,-1.5 11.566,-1.002 ; 10.5,0.5 10.701,0.5 10.901,0.3 10.901,0 ; 10.5,1.5 11.332,1.5 11.332,1 ; 10.5,2.5 10.951,2.5 11.586,1.865 11.586,1.831 11.983,1.434 19.021,1.434 20.402,2.815 ; 10.5,4.5 11.207,4.5 11.457,4.25 19.087,4.25 20.103,5.266 20.103,5.729 ; 10.5,5.5 10.992,5.008 11.334,5.008 11.838,4.504 18.702,4.504 19.496,5.298 19.496,5.729 ; 10.5,7.5 11.587,6.413 11.587,5.949 12.032,5.504 15.385,5.504 15.83,5.949 15.83,8.241 15.829,8.242 15.829,8.673 ; 10.5,8.5 11.004,8.5 11.576,9.072 11.576,9.099 11.973,9.496 12.901,9.496 13.306,9.901 13.737,9.901 ; 10.5,9.5 10.891,9.891 10.891,11.434
Top Overlay:
  lines w0.2: -11.5,-11.5 -11.5,10.5 -10.5,11.5 11.5,11.5 11.5,-11.5 -11.5,-11.5
  text ".Designator" at 1,12.5 h1.6
Mechanical 9:
  text "N11" at -1.46,-1.25 h0.8
  text "N9" at -3.14,-1.25 h0.8
  text "N17" at 4.54,-1.25 h0.8
  text "N13" at 0.54,-1.25 h0.8
  text "N21" at 8.54,-1.25 h0.8
  text "AA22" at 9.22,-9.25 h0.8
  text "AA9" at -3.46,-9.25 h0.8
  text "AA13" at 0.22,-9.25 h0.8
  text "N2" at -10.14,-1.25 h0.8
  text "A11" at -1.46,10.75 h0.8
  text "J21" at 8.54,2.75 h0.8
  text "AA17" at 4.22,-9.25 h0.8
  text "AA5" at -7.46,-9.25 h0.8
  text "J2" at -10.14,2.75 h0.8
  text "A1" at -11.14,10.75 h0.8
  text "AB22" at 9.22,-10.25 h0.8
  text "A22" at 9.54,10.75 h0.8
  text "E21" at 8.54,6.75 h0.8
  text "U21" at 8.54,-5.25 h0.8
  text "E2" at -10.14,6.75 h0.8
  text "U2" at -10.14,-5.25 h0.8
  text "AB1" at -11.46,-10.25 h0.8
  text "B11" at -1.46,9.75 h0.8
  text "B15" at 2.54,9.75 h0.8
  text "B7" at -5.14,9.75 h0.8
  text "B5" at -7.14,9.75 h0.8
  text "A13" at 0.54,10.75 h0.8
  text "A9" at -3.14,10.75 h0.8
  text "B17" at 4.54,9.75 h0.8
  text "A17" at 4.54,10.75 h0.8
  text "W16" at 3.54,-7.25 h0.8
  text "V14" at 1.54,-6.25 h0.8
  text "P12" at -0.46,-2.25 h0.8
  text "V10" at -2.46,-6.25 h0.8
  text "P10" at -2.46,-2.25 h0.8
  text "W7" at -5.14,-7.25 h0.8
  text "U7" at -5.14,-5.25 h0.8
  text "G5" at -7.14,4.75 h0.8
  text "H7" at -5.14,3.75 h0.8
  text "L9" at -3.14,0.75 h0.8
  text "L5" at -7.14,0.75 h0.8
  text "M10" at -2.46,-0.25 h0.8
  text "R5" at -7.14,-3.25 h0.8
  text "V4" at -8.14,-6.25 h0.8
  text "D16" at 3.54,7.75 h0.8
  text "C16" at 3.54,8.75 h0.8
  text "E15" at 2.54,6.75 h0.8
  text "E14" at 1.54,6.75 h0.8
  text "C14" at 1.54,8.75 h0.8
  text "J13" at 0.54,2.75 h0.8
  text "F13" at 0.54,5.75 h0.8
  text "K12" at -0.46,1.75 h0.8
  text "C12" at -0.46,8.75 h0.8
  text "L11" at -1.46,0.75 h0.8
  text "J11" at -1.46,2.75 h0.8
  text "E11" at -1.46,6.75 h0.8
  text "K10" at -2.46,1.75 h0.8
  text "D10" at -2.46,7.75 h0.8
  text "J9" at -3.14,2.75 h0.8
  text "C8" at -4.14,8.75 h0.8
  text "E7" at -5.14,6.75 h0.8
  text "D6" at -6.14,7.75 h0.8
  text "C6" at -6.14,8.75 h0.8
  text "G18" at 5.54,4.75 h0.8
  text "J15" at 2.54,2.75 h0.8
  text "K14" at 1.54,1.75 h0.8
  text "L18" at 5.54,0.75 h0.8
  text "L13" at 0.54,0.75 h0.8
  text "M14" at 1.54,-0.25 h0.8
  text "M12" at -0.46,-0.25 h0.8
  text "P14" at 1.54,-2.25 h0.8
  text "R18" at 5.54,-3.25 h0.8
  text "W19" at 6.54,-7.25 h0.8
  text "M16" at 3.54,-0.25 h0.8
  text "Y16" at 3.54,-8.25 h0.8
  text "Y17" at 4.54,-8.25 h0.8
  text "AA16" at 3.22,-9.25 h0.8
  text "AA18" at 5.22,-9.25 h0.8
  text "AB17" at 4.22,-10.25 h0.8
  text "AB18" at 5.22,-10.25 h0.8
  text "N16" at 3.54,-1.25 h0.8
  text "P16" at 3.54,-2.25 h0.8
  text "P17" at 4.54,-2.25 h0.8
  text "R16" at 3.54,-3.25 h0.8
  text "R17" at 4.54,-3.25 h0.8
  text "T17" at 4.54,-4.25 h0.8
  text "U16" at 3.54,-5.25 h0.8
  text "V17" at 4.54,-6.25 h0.8
  text "W17" at 4.54,-7.25 h0.8
  text "L15" at 2.54,0.75 h0.8
  text "Y14" at 1.54,-8.25 h0.8
  text "Y15" at 2.54,-8.25 h0.8
  text "AA14" at 1.22,-9.25 h0.8
  text "AB14" at 1.22,-10.25 h0.8
  text "AB15" at 2.22,-10.25 h0.8
  text "AB16" at 3.22,-10.25 h0.8
  text "N15" at 2.54,-1.25 h0.8
  text "R15" at 2.54,-3.25 h0.8
  text "T14" at 1.54,-4.25 h0.8
  text "T15" at 2.54,-4.25 h0.8
  text "U14" at 1.54,-5.25 h0.8
  text "U15" at 2.54,-5.25 h0.8
  text "V15" at 2.54,-6.25 h0.8
  text "W14" at 1.54,-7.25 h0.8
  text "W15" at 2.54,-7.25 h0.8
  text "M17" at 4.54,-0.25 h0.8
  text "R22" at 9.54,-3.25 h0.8
  text "T20" at 7.54,-4.25 h0.8
  text "T21" at 8.54,-4.25 h0.8
  text "T22" at 9.54,-4.25 h0.8
  text "U20" at 7.54,-5.25 h0.8
  text "U22" at 9.54,-5.25 h0.8
  text "M18" at 5.54,-0.25 h0.8
  text "M19" at 6.54,-0.25 h0.8
  text "N19" at 6.54,-1.25 h0.8
  text "N20" at 7.54,-1.25 h0.8
  text "N22" at 9.54,-1.25 h0.8
  text "P20" at 7.54,-2.25 h0.8
  text "P21" at 8.54,-2.25 h0.8
  text "P22" at 9.54,-2.25 h0.8
  text "R20" at 7.54,-3.25 h0.8
  text "P18" at 5.54,-2.25 h0.8
  text "W20" at 7.54,-7.25 h0.8
  text "W22" at 9.54,-7.25 h0.8
  text "Y18" at 5.54,-8.25 h0.8
  text "Y21" at 8.54,-8.25 h0.8
  text "Y22" at 9.54,-8.25 h0.8
  text "AB19" at 6.22,-10.25 h0.8
  text "P19" at 6.54,-2.25 h0.8
  text "R19" at 6.54,-3.25 h0.8
  text "T18" at 5.54,-4.25 h0.8
  text "T19" at 6.54,-4.25 h0.8
  text "U19" at 6.54,-5.25 h0.8
  text "V19" at 6.54,-6.25 h0.8
  text "V21" at 8.54,-6.25 h0.8
  text "V22" at 9.54,-6.25 h0.8
  text "W18" at 5.54,-7.25 h0.8
  text "F18" at 5.54,5.75 h0.8
  text "H20" at 7.54,3.75 h0.8
  text "H21" at 8.54,3.75 h0.8
  text "H22" at 9.54,3.75 h0.8
  text "J19" at 6.54,2.75 h0.8
  text "J20" at 7.54,2.75 h0.8
  text "J22" at 9.54,2.75 h0.8
  text "F19" at 6.54,5.75 h0.8
  text "F20" at 7.54,5.75 h0.8
  text "G19" at 6.54,4.75 h0.8
  text "G20" at 7.54,4.75 h0.8
  text "G22" at 9.54,4.75 h0.8
  text "H16" at 3.54,3.75 h0.8
  text "H17" at 4.54,3.75 h0.8
  text "H18" at 5.54,3.75 h0.8
  text "H19" at 6.54,3.75 h0.8
  text "J16" at 3.54,2.75 h0.8
  text "L19" at 6.54,0.75 h0.8
  text "L20" at 7.54,0.75 h0.8
  text "L22" at 9.54,0.75 h0.8
  text "M20" at 7.54,-0.25 h0.8
  text "M21" at 8.54,-0.25 h0.8
  text "M22" at 9.54,-0.25 h0.8
  text "J17" at 4.54,2.75 h0.8
  text "K16" at 3.54,1.75 h0.8
  text "K17" at 4.54,1.75 h0.8
  text "K18" at 5.54,1.75 h0.8
  text "K19" at 6.54,1.75 h0.8
  text "K20" at 7.54,1.75 h0.8
  text "K21" at 8.54,1.75 h0.8
  text "K22" at 9.54,1.75 h0.8
  text "L17" at 4.54,0.75 h0.8
  text "A20" at 7.54,10.75 h0.8
  text "D21" at 8.54,7.75 h0.8
  text "D22" at 9.54,7.75 h0.8
  text "E20" at 7.54,6.75 h0.8
  text "E22" at 9.54,6.75 h0.8
  text "F21" at 8.54,5.75 h0.8
  text "F22" at 9.54,5.75 h0.8
  text "B20" at 7.54,9.75 h0.8
  text "B21" at 8.54,9.75 h0.8
  text "B22" at 9.54,9.75 h0.8
  text "C18" at 5.54,8.75 h0.8
  text "C19" at 6.54,8.75 h0.8
  text "C20" at 7.54,8.75 h0.8
  text "C22" at 9.54,8.75 h0.8
  text "D18" at 5.54,7.75 h0.8
  text "D19" at 6.54,7.75 h0.8
  text "F2" at -10.14,5.75 h0.8
  text "H3" at -9.14,3.75 h0.8
  text "H4" at -8.14,3.75 h0.8
  text "H5" at -7.14,3.75 h0.8
  text "H6" at -6.14,3.75 h0.8
  text "H8" at -4.14,3.75 h0.8
  text "J1" at -11.14,2.75 h0.8
  text "F3" at -9.14,5.75 h0.8
  text "F5" at -7.14,5.75 h0.8
  text "G1" at -11.14,4.75 h0.8
  text "G3" at -9.14,4.75 h0.8
  text "G4" at -8.14,4.75 h0.8
  text "G6" at -6.14,4.75 h0.8
  text "G7" at -5.14,4.75 h0.8
  text "H1" at -11.14,3.75 h0.8
  text "H2" at -10.14,3.75 h0.8
  text "A2" at -10.14,10.75 h0.8
  text "D3" at -9.14,7.75 h0.8
  text "D4" at -8.14,7.75 h0.8
  text "E1" at -11.14,6.75 h0.8
  text "E3" at -9.14,6.75 h0.8
  text "E4" at -8.14,6.75 h0.8
  text "F1" at -11.14,5.75 h0.8
  text "A3" at -9.14,10.75 h0.8
  text "A4" at -8.14,10.75 h0.8
  text "A5" at -7.14,10.75 h0.8
  text "B1" at -11.14,9.75 h0.8
  text "B2" at -10.14,9.75 h0.8
  text "B3" at -9.14,9.75 h0.8
  text "C1" at -11.14,8.75 h0.8
  text "D1" at -11.14,7.75 h0.8
  text "D2" at -10.14,7.75 h0.8
  text "M1" at -11.14,-0.25 h0.8
  text "N4" at -8.14,-1.25 h0.8
  text "N6" at -6.14,-1.25 h0.8
  text "N7" at -5.14,-1.25 h0.8
  text "P1" at -11.14,-2.25 h0.8
  text "P2" at -10.14,-2.25 h0.8
  text "P3" at -9.14,-2.25 h0.8
  text "M2" at -10.14,-0.25 h0.8
  text "M3" at -9.14,-0.25 h0.8
  text "M4" at -8.14,-0.25 h0.8
  text "M5" at -7.14,-0.25 h0.8
  text "M6" at -6.14,-0.25 h0.8
  text "M7" at -5.14,-0.25 h0.8
  text "M8" at -4.14,-0.25 h0.8
  text "N1" at -11.14,-1.25 h0.8
  text "N3" at -9.14,-1.25 h0.8
  text "J3" at -9.14,2.75 h0.8
  text "K7" at -5.14,1.75 h0.8
  text "K8" at -4.14,1.75 h0.8
  text "L1" at -11.14,0.75 h0.8
  text "L3" at -9.14,0.75 h0.8
  text "L4" at -8.14,0.75 h0.8
  text "L6" at -6.14,0.75 h0.8
  text "J4" at -8.14,2.75 h0.8
  text "J6" at -6.14,2.75 h0.8
  text "J7" at -5.14,2.75 h0.8
  text "K1" at -11.14,1.75 h0.8
  text "K2" at -10.14,1.75 h0.8
  text "K3" at -9.14,1.75 h0.8
  text "K4" at -8.14,1.75 h0.8
  text "K5" at -7.14,1.75 h0.8
  text "K6" at -6.14,1.75 h0.8
  text "T7" at -5.14,-4.25 h0.8
  text "W1" at -11.14,-7.25 h0.8
  text "W3" at -9.14,-7.25 h0.8
  text "W4" at -8.14,-7.25 h0.8
  text "W6" at -6.14,-7.25 h0.8
  text "Y1" at -11.14,-8.25 h0.8
  text "Y2" at -10.14,-8.25 h0.8
  text "U1" at -11.14,-5.25 h0.8
  text "U3" at -9.14,-5.25 h0.8
  text "U4" at -8.14,-5.25 h0.8
  text "U6" at -6.14,-5.25 h0.8
  text "V1" at -11.14,-6.25 h0.8
  text "V2" at -10.14,-6.25 h0.8
  text "V3" at -9.14,-6.25 h0.8
  text "V5" at -7.14,-6.25 h0.8
  text "V7" at -5.14,-6.25 h0.8
  text "P4" at -8.14,-2.25 h0.8
  text "T1" at -11.14,-4.25 h0.8
  text "T2" at -10.14,-4.25 h0.8
  text "T3" at -9.14,-4.25 h0.8
  text "T4" at -8.14,-4.25 h0.8
  text "T5" at -7.14,-4.25 h0.8
  text "T6" at -6.14,-4.25 h0.8
  text "P5" at -7.14,-2.25 h0.8
  text "P6" at -6.14,-2.25 h0.8
  text "P7" at -5.14,-2.25 h0.8
  text "P8" at -4.14,-2.25 h0.8
  text "R1" at -11.14,-3.25 h0.8
  text "R3" at -9.14,-3.25 h0.8
  text "R4" at -8.14,-3.25 h0.8
  text "R7" at -5.14,-3.25 h0.8
  text "R8" at -4.14,-3.25 h0.8
  text "R13" at 0.54,-3.25 h0.8
  text "Y12" at -0.46,-8.25 h0.8
  text "Y13" at 0.54,-8.25 h0.8
  text "AA12" at -0.78,-9.25 h0.8
  text "AB11" at -1.78,-10.25 h0.8
  text "AB12" at -0.78,-10.25 h0.8
  text "AB13" at 0.22,-10.25 h0.8
  text "T12" at -0.46,-4.25 h0.8
  text "U12" at -0.46,-5.25 h0.8
  text "U13" at 0.54,-5.25 h0.8
  text "V11" at -1.46,-6.25 h0.8
  text "V13" at 0.54,-6.25 h0.8
  text "W11" at -1.46,-7.25 h0.8
  text "W12" at -0.46,-7.25 h0.8
  text "W13" at 0.54,-7.25 h0.8
  text "Y11" at -1.46,-8.25 h0.8
  text "R9" at -3.14,-3.25 h0.8
  text "Y10" at -2.46,-8.25 h0.8
  text "AA8" at -4.46,-9.25 h0.8
  text "AA10" at -2.78,-9.25 h0.8
  text "AB8" at -4.46,-10.25 h0.8
  text "AB9" at -3.46,-10.25 h0.8
  text "AB10" at -2.78,-10.25 h0.8
  text "R11" at -1.46,-3.25 h0.8
  text "T10" at -2.46,-4.25 h0.8
  text "T11" at -1.46,-4.25 h0.8
  text "U9" at -3.14,-5.25 h0.8
  text "U10" at -2.46,-5.25 h0.8
  text "V9" at -3.14,-6.25 h0.8
  text "W9" at -3.14,-7.25 h0.8
  text "W10" at -2.46,-7.25 h0.8
  text "Y9" at -3.14,-8.25 h0.8
  text "T8" at -4.14,-4.25 h0.8
  text "AA4" at -8.46,-9.25 h0.8
  text "AA6" at -6.46,-9.25 h0.8
  text "AB4" at -8.46,-10.25 h0.8
  text "AB5" at -7.46,-10.25 h0.8
  text "AB6" at -6.46,-10.25 h0.8
  text "AB7" at -5.46,-10.25 h0.8
  text "U8" at -4.14,-5.25 h0.8
  text "W8" at -4.14,-7.25 h0.8
  text "Y3" at -9.14,-8.25 h0.8
  text "Y5" at -7.14,-8.25 h0.8
  text "Y6" at -6.14,-8.25 h0.8
  text "Y7" at -5.14,-8.25 h0.8
  text "Y8" at -4.14,-8.25 h0.8
  text "AA1" at -11.46,-9.25 h0.8
  text "AA2" at -10.46,-9.25 h0.8
  text "A21" at 8.54,10.75 h0.8
  text "G17" at 4.54,4.75 h0.8
  text "D20" at 7.54,7.75 h0.8
  text "N14" at 1.54,-1.25 h0.8
  text "N12" at -0.46,-1.25 h0.8
  text "N10" at -2.46,-1.25 h0.8
  text "R14" at 1.54,-3.25 h0.8
  text "P9" at -3.14,-2.25 h0.8
  text "P13" at 0.54,-2.25 h0.8
  text "P11" at -1.46,-2.25 h0.8
  text "M9" at -3.14,-0.25 h0.8
  text "M13" at 0.54,-0.25 h0.8
  text "M11" at -1.46,-0.25 h0.8
  text "L14" at 1.54,0.75 h0.8
  text "L12" at -0.46,0.75 h0.8
  text "L10" at -2.46,0.75 h0.8
  text "K9" at -3.14,1.75 h0.8
  text "K13" at 0.54,1.75 h0.8
  text "K11" at -1.46,1.75 h0.8
  text "J8" at -4.14,2.75 h0.8
  text "J14" at 1.54,2.75 h0.8
  text "J12" at -0.46,2.75 h0.8
  text "J10" at -2.46,2.75 h0.8
  text "N5" at -7.14,-1.25 h0.8
  text "N18" at 5.54,-1.25 h0.8
  text "R21" at 8.54,-3.25 h0.8
  text "AA15" at 2.22,-9.25 h0.8
  text "AB3" at -9.46,-10.25 h0.8
  text "L2" at -10.14,0.75 h0.8
  text "R2" at -10.14,-3.25 h0.8
  text "G21" at 8.54,4.75 h0.8
  text "L21" at 8.54,0.75 h0.8
  text "W21" at 8.54,-7.25 h0.8
  text "AA19" at 6.22,-9.25 h0.8
  text "AA11" at -1.78,-9.25 h0.8
  text "G2" at -10.14,4.75 h0.8
  text "C2" at -10.14,8.75 h0.8
  text "W2" at -10.14,-7.25 h0.8
  text "AA7" at -5.46,-9.25 h0.8
  text "C21" at 8.54,8.75 h0.8
  text "V16" at 3.54,-6.25 h0.8
  text "T13" at 0.54,-4.25 h0.8
  text "V12" at -0.46,-6.25 h0.8
  text "T9" at -3.14,-4.25 h0.8
  text "V8" at -4.14,-6.25 h0.8
  text "W5" at -7.14,-7.25 h0.8
  text "F4" at -8.14,5.75 h0.8
  text "J5" at -7.14,2.75 h0.8
  text "L7" at -5.14,0.75 h0.8
  text "U5" at -7.14,-5.25 h0.8
  text "B19" at 6.54,9.75 h0.8
  text "B18" at 5.54,9.75 h0.8
  text "E17" at 4.54,6.75 h0.8
  text "G14" at 1.54,4.75 h0.8
  text "G10" at -2.46,4.75 h0.8
  text "F6" at -6.14,5.75 h0.8
  text "B4" at -8.14,9.75 h0.8
  text "E19" at 6.54,6.75 h0.8
  text "J18" at 5.54,2.75 h0.8
  text "L16" at 3.54,0.75 h0.8
  text "U18" at 5.54,-5.25 h0.8
  text "Y20" at 7.54,-8.25 h0.8
  text "AA20" at 7.22,-9.25 h0.8
  text "AB21" at 8.22,-10.25 h0.8
  text "G16" at 3.54,4.75 h0.8
  text "AB2" at -10.46,-10.25 h0.8
  text "T16" at 3.54,-4.25 h0.8
  text "P15" at 2.54,-2.25 h0.8
  text "U17" at 4.54,-5.25 h0.8
  text "V18" at 5.54,-6.25 h0.8
  text "V20" at 7.54,-6.25 h0.8
  text "C5" at -7.14,8.75 h0.8
  text "F7" at -5.14,5.75 h0.8
  text "F8" at -4.14,5.75 h0.8
  text "C4" at -8.14,8.75 h0.8
  text "D17" at 4.54,7.75 h0.8
  text "A19" at 6.54,10.75 h0.8
  text "A18" at 5.54,10.75 h0.8
  text "C17" at 4.54,8.75 h0.8
  text "E5" at -7.14,6.75 h0.8
  text "E6" at -6.14,6.75 h0.8
  text "H14" at 1.54,3.75 h0.8
  text "G15" at 2.54,4.75 h0.8
  text "H13" at 0.54,3.75 h0.8
  text "G13" at 0.54,4.75 h0.8
  text "E16" at 3.54,6.75 h0.8
  text "F16" at 3.54,5.75 h0.8
  text "F14" at 1.54,5.75 h0.8
  text "F15" at 2.54,5.75 h0.8
  text "H12" at -0.46,3.75 h0.8
  text "G11" at -1.46,4.75 h0.8
  text "G9" at -3.14,4.75 h0.8
  text "F10" at -2.46,5.75 h0.8
  text "H10" at -2.46,3.75 h0.8
  text "H11" at -1.46,3.75 h0.8
  text "G8" at -4.14,4.75 h0.8
  text "F9" at -3.14,5.75 h0.8
  text "D5" at -7.14,7.75 h0.8
  text "E12" at -0.46,6.75 h0.8
  text "C11" at -1.46,8.75 h0.8
  text "F12" at -0.46,5.75 h0.8
  text "D11" at -1.46,7.75 h0.8
  text "E9" at -3.14,6.75 h0.8
  text "B12" at -0.46,9.75 h0.8
  text "B10" at -2.46,9.75 h0.8
  text "A12" at -0.46,10.75 h0.8
  text "A10" at -2.46,10.75 h0.8
  text "C7" at -5.14,8.75 h0.8
  text "D7" at -5.14,7.75 h0.8
  text "A6" at -6.14,10.75 h0.8
  text "B6" at -6.14,9.75 h0.8
  text "C9" at -3.14,8.75 h0.8
  text "D9" at -3.14,7.75 h0.8
  text "A8" at -4.14,10.75 h0.8
  text "B8" at -4.14,9.75 h0.8
  text "AB20" at 7.22,-10.25 h0.8
  text "AA3" at -9.46,-9.25 h0.8
  text "A16" at 3.54,10.75 h0.8
  text "B16" at 3.54,9.75 h0.8
  text "C15" at 2.54,8.75 h0.8
  text "D15" at 2.54,7.75 h0.8
  text "E18" at 5.54,6.75 h0.8
  text "E10" at -2.46,6.75 h0.8
  text "A15" at 2.54,10.75 h0.8
  text "C10" at -2.46,8.75 h0.8
  text "B9" at -3.14,9.75 h0.8
  text "A7" at -5.14,10.75 h0.8
  text "D12" at -0.46,7.75 h0.8
  text "D8" at -4.14,7.75 h0.8
  text "E8" at -4.14,6.75 h0.8
  text "D14" at 1.54,7.75 h0.8
  text "E13" at 0.54,6.75 h0.8
  text "B13" at 0.54,9.75 h0.8
  text "N8" at -4.14,-1.25 h0.8
  text "F11" at -1.46,5.75 h0.8
  text "H15" at 2.54,3.75 h0.8
  text "G12" at -0.46,4.75 h0.8
  text "H9" at -3.14,3.75 h0.8
  text "K15" at 2.54,1.75 h0.8
  text "L8" at -4.14,0.75 h0.8
  text "M15" at 2.54,-0.25 h0.8
  text "R12" at -0.46,-3.25 h0.8
  text "R10" at -2.46,-3.25 h0.8
  text "R6" at -6.14,-3.25 h0.8
  text "U11" at -1.46,-5.25 h0.8
  text "V6" at -6.14,-6.25 h0.8
  text "F17" at 4.54,5.75 h0.8
  text "Y4" at -8.14,-8.25 h0.8
  text "AA21" at 8.22,-9.25 h0.8
  text "Y19" at 6.54,-8.25 h0.8
  text "C3" at -9.14,8.75 h0.8
  text "C13" at 0.54,8.75 h0.8
  text "D13" at 0.54,7.75 h0.8
  text "A14" at 1.54,10.75 h0.8
  text "B14" at 1.54,9.75 h0.8
Mechanical 13:
  lines w0.025: -11.5,10.5 -10.5,11.5 ; -11.5,-11.5 -11.5,11.5 11.5,11.5 11.5,-11.5 -11.5,-11.5
Mechanical 14:
  lines w0.025: -11.5,-11.5 -11.5,11.5 11.5,11.5 11.5,-11.5 -11.5,-11.5
Mechanical 15:
  lines w0.025: -11.5,-11.5 -11.5,11.5 11.5,11.5 11.5,-11.5 -11.5,-11.5
3D body: height 1.6, standoff 0.8, extent -11.501,-11.501 11.501,11.501
3D body: height 0.8, standoff 0, extent -11.513,-11.513 11.513,11.513
3D body: height 0, standoff 0, extent -11.499,-11.499 11.499,11.499